# Altium footprint library CR-0402.PcbLib: 1 footprints
Each footprint in its own frame and in the unit in brackets; x right, y up, seen from the top. Pads: shape width x height; smd on the part's side, far side on the other; paste and mask are expansions set on the pad; w line width, h text height; cw(c..) or ccw(c..) is an arc to the next point about the centre after c.
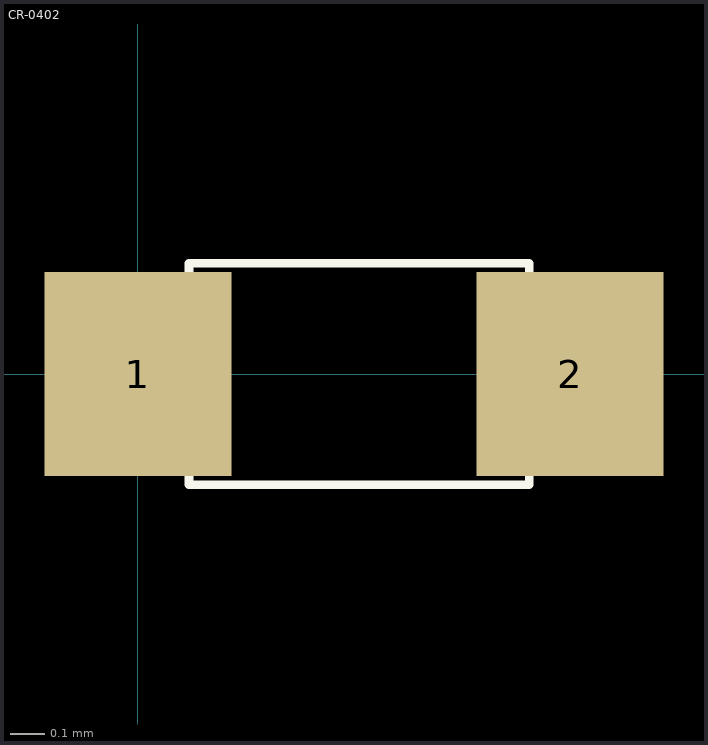
[diagram p0: the footprint, top view; thin cyan lines are the x and y axes]

## CR-0402 [mm]
pads (2):
  rect 0.55x0.6 smd: 1(0,0) 2(1.27,0)
Top Overlay:
  lines w0.025: 0.15,-0.325 0.15,0.325 1.15,0.325 1.15,-0.325 0.15,-0.325